# Altium footprint library 三电平变换器.PCBLIB: 98 footprints (part 5 of 7)
Each footprint in its own frame and in the unit in brackets; x right, y up, seen from the top. Pads: shape width x height; smd on the part's side, far side on the other; paste and mask are expansions set on the pad; w line width, h text height; cw(c..) or ccw(c..) is an arc to the next point about the centre after c.
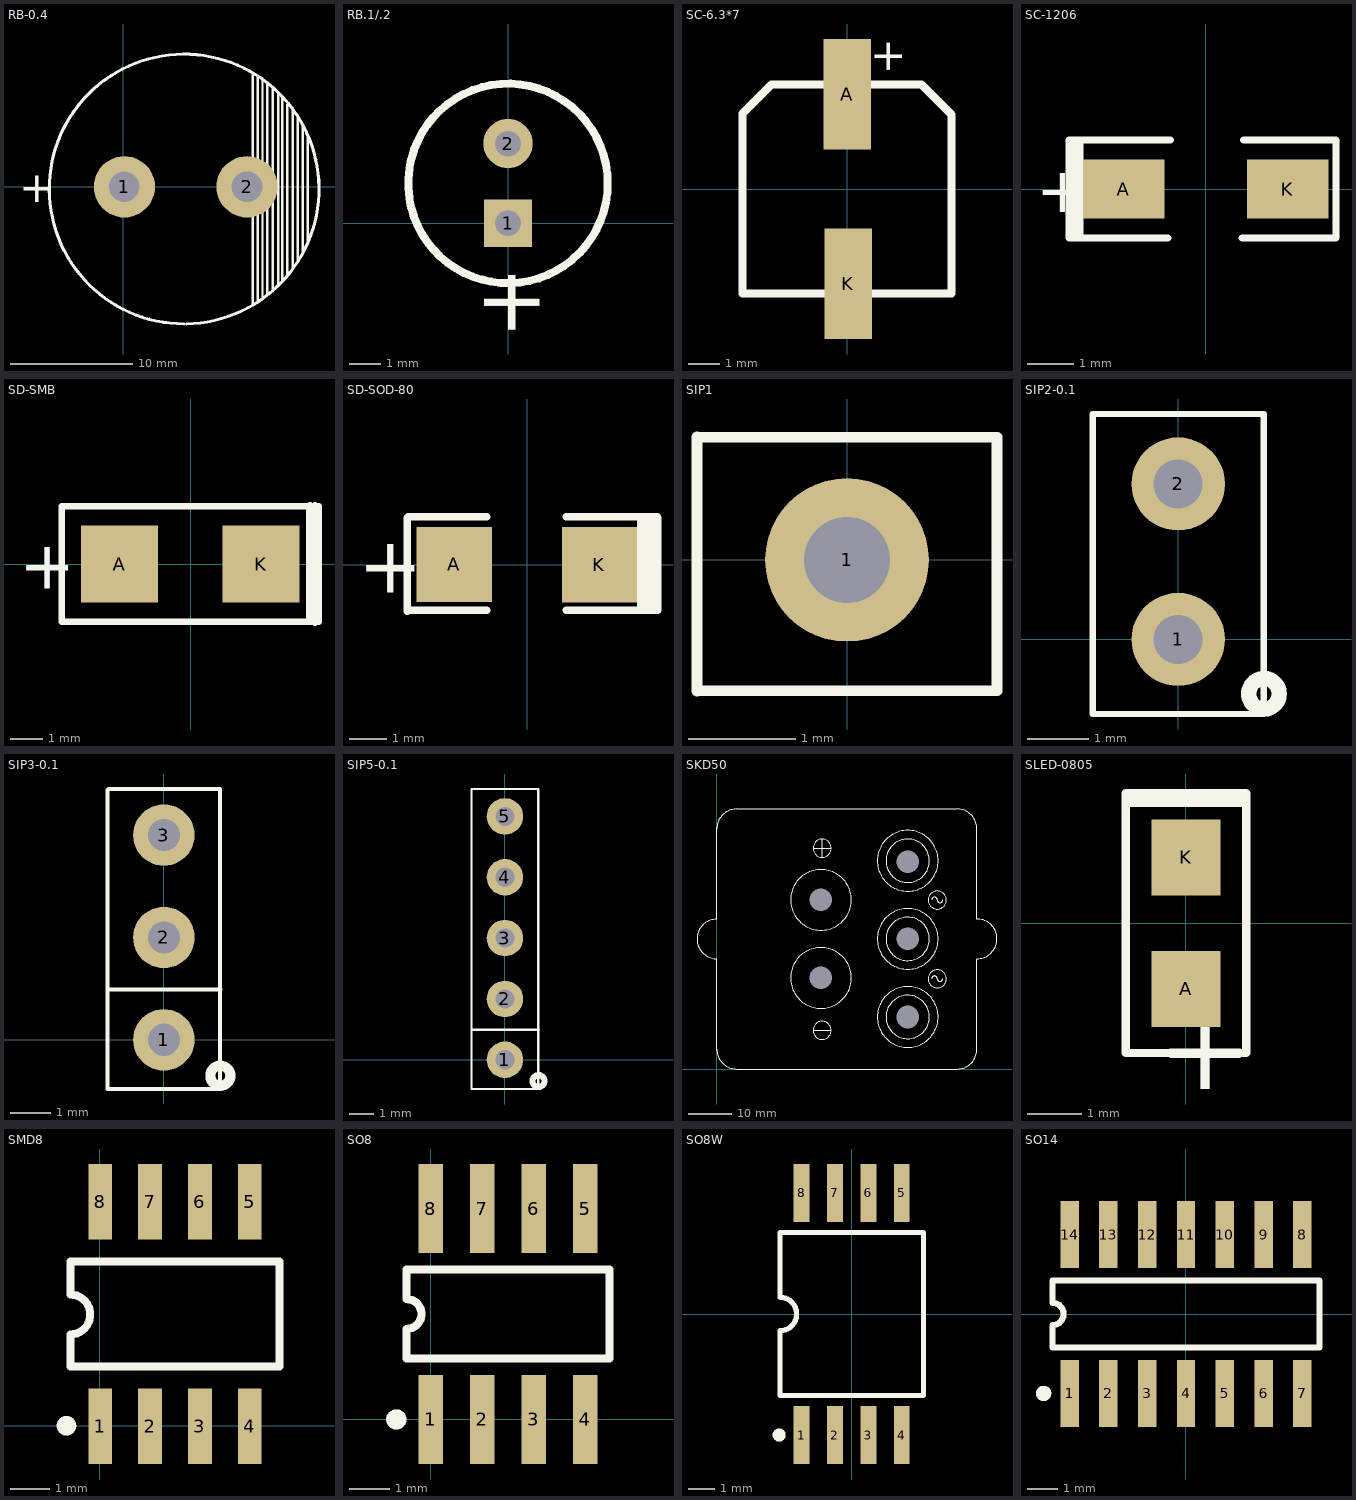
[diagram p4: the footprints below, top view; thin cyan lines are the x and y axes]

## RB-0.4 [mm] "有极性焊盘间距400mil"
pads (2):
  round 5 hole 2.5: 1(0.088,0) 2(10.088,0)
TopOverlay:
  lines w0.203: 10.539,-9.608 10.539,-1.575 ; 10.539,0.889 10.539,9.292 ; 10.945,-9.408 10.945,-1.626 ; 10.945,0.813 10.945,8.992 ; 11.351,-9.108 11.351,-1.6 ; 11.351,0.686 11.351,8.792 ; 11.758,-8.808 11.758,-1.27 ; 11.758,0.457 11.758,8.492 ; 12.19,-8.508 12.19,7.992 ; 12.621,-8.108 12.621,7.592 ; 12.977,-7.708 12.977,7.192 ; 13.383,-7.208 13.383,6.692 ; 13.815,-6.708 13.815,6.394 ; 14.222,-6.006 14.222,5.594 ; 14.628,-5.406 14.628,4.992 ; 15.034,-4.406 15.034,4.092
  lines w0.254: 4.96,-11.175 cw(c4.96,-0.175) 5.149,-11.173
  text "+" at -8.509,-1.27 h2.54

## RB.1/.2 [mil]
pads (2):
  rect 60x60 hole 32: 1(0,0)
  round 62 hole 32: 2(0,100)
TopOverlay:
  circle w10: c0,50 r125
  text "+" at 40,-145 h80

## SC-6.3*7 [mm] "贴片,焊盘距离240mil"
pads (2):
  rect 1.5x3.5 smd: A(-0.002,3) K(0.023,-3)
TopOverlay:
  lines w0.254: -3.327,-0.788 -3.327,2.387 -2.402,3.312 0.123,3.312 2.348,3.312 3.298,2.363 3.298,0.037 3.298,-3.312 -0.077,-3.312 -3.327,-3.312 -3.327,0.037
  text "+" at 1.737,3.626 h1

## SC-1206 [mil] "贴片,焊盘距离140mil"
pads (2):
  rect 69.84x50 smd: A(-70,0) K(70.28,0)
TopOverlay:
  lines w6: -113.6,-42 -113.6,0 -113.6,42 ; -110.6,-42 -110.6,0 -110.6,42 ; -107.6,-42 -107.6,0 -107.6,42 ; -32.01,-42 -116.6,-42 -116.6,0 -116.6,42 -30.18,42 ; 31.24,-42 111.4,-42 111.4,42 32.17,42
  text "+" at -145,-20 h39.37

## SD-SMB [mm] "贴片,焊盘距离4.4mm"
pads (2):
  rect 2.4x2.4 smd: A(-2.207,0.002) K(2.193,0.002)
TopOverlay:
  lines w0.2: -4.007,-1.798 -4.007,1.802 3.993,1.802 3.993,-1.798 -4.007,-1.798
  lines w0.254: 3.716,-1.748 3.716,1.802 ; 3.863,-1.798 3.863,1.802
  text "+" at -5.334,-0.762 h1.52

## SD-SOD-80 [mil] "贴片,焊盘间距4mm"
pads (2):
  rect 80x80 smd: A(-77.5,0.33) K(77,0)
TopOverlay:
  rectangle: 116.97,-49.04 139.47,50.96
  rectangle: 124.47,-49.04 139.47,50.96
  lines w7.87: 117,-48.67 139.5,-48.67 139.5,50.33 ; 117,51.33 138.5,51.33
  lines w8: -127.5,-49.67 -127.5,50.33 ; -126.5,-48.67 -118,-48.67 -43,-48.67 ; -126.5,51.33 -118,51.33 -43,51.33 ; 42,-48.67 117,-48.67 126.5,-48.67 ; 42,51.33 117,51.33
  text "+" at -180,-30 h60

## SIP1 [mil] "1о"
pads (1):
  round 60 hole 31.5: 1(0,0)
TopOverlay:
  lines w3.94: -54,-48 55,-48 55,-43 55,45 -54,45
  lines w4: -55,-48 -55,45

## SIP2-0.1 [mil] "2芯排针"
pads (2):
  round 60 hole 31.5: 1(0,0) 2(0,100)
TopOverlay:
  circle w9.84: c55.16,-35 r9.84
  lines w3.94: -54,-48 55,-48 55,-43 55,145 -54,145
  lines w4: -55,-48 -55,145

## SIP3-0.1 [mil] "3芯排针"
pads (3):
  round 60 hole 31.5: 1(0,0) 2(0,100) 3(0,200)
TopOverlay:
  circle w9.84: c55.16,-35 r9.84
  lines w3.94: -54,-48 55,-48 55,-43 55,244.17 ; -54,245 55,245 ; -53.67,49.17 55.33,49.17
  lines w4: -55,-48 -55,244.17

## SIP5-0.1 [mil] "5芯排针"
pads (5):
  round 60 hole 31.5: 1(0,0) 2(0,100) 3(0,200) 4(0,300) 5(0,400)
TopOverlay:
  circle w9.84: c55.16,-35 r9.84
  lines w3.94: -54,-48 55,-48 55,-43 55,445 -54,445 ; -53.67,49.17 55.33,49.17
  lines w4: -55,-48 -55,445

## SKD50 [mm] "3相不控整流桥by SEMIKRON 50A"
pads (5):
  round 1.524 hole 5.2: A(44,47.797) B(44,30) C(44,12) N(24,21) P(24,39)
TopOverlay:
  circle w0.254: c24.257,8.923 r2.077
  circle w0.254: c24.257,50.894 r2.086
  circle w0.254: c24,21 r7
  circle w0.254: c24.003,38.989 r7
  circle w0.254: c44,30 r7
  circle w0.254: c44,30 r5
  circle w0.254: c44,12 r7
  circle w0.254: c44,12 r5
  circle w0.254: c44,48 r7
  circle w0.254: c44,48 r5
  circle w0.254: c50.8,20.795 r2.086
  circle w0.254: c50.8,38.956 r2.086
  lines w0.254: -0.127,34.542 ccw(c0,29.972) 0,25.4 0,4.445 ; 0,4.572 ccw(c4.572,4.572) 4.572,0 55.372,0 ccw(c55.372,4.572) 59.944,4.572 ; 0,34.544 0,55.626 ; 0,55.372 cw(c4.572,55.372) 4.572,59.944 55.372,59.944 cw(c55.372,55.372) 59.944,55.372 ; 22.254,50.894 26.254,50.894 ; 22.26,8.923 26.26,8.923 ; 24.29,48.924 24.29,52.924 ; 49.53,20.828 cw(c50.165,20.828) 50.8,20.828 ccw(c51.435,20.828) 52.07,20.828 ; 49.53,38.989 cw(c50.165,38.989) 50.8,38.989 ccw(c51.435,38.989) 52.07,38.989 ; 59.907,34.571 cw(c60,30) 59.941,25.428 ; 59.944,4.318 59.944,25.273 ; 59.944,34.544 59.944,55.499

## SLED-0805 [mil]
pads (2):
  rect 50x55 smd: A(0.4,-47.5) K(0.4,47.5)
TopOverlay:
  rectangle: -43.08,84 43.96,97
  lines w6: -43.34,-93.74 -43.34,93.89 ; -43.08,-94 43.81,-94 43.81,94
  text "+" at -20,-120 h60

## SMD8 [mil]
pads (8):
  rect 24x76 smd: 1(0.43,-0.41) 2(50.43,-0.41) 3(100.43,-0.41) 4(150.43,-0.41) 5(150.43,224.59) 6(100.43,224.59) 7(50.43,224.59) 8(0.43,224.59)
TopOverlay:
  circle w9.84: c-33.46,0 r4.92
  lines w8: -29.57,59.59 -29.57,91.59 ccw(c-29.57,111.59) -29.57,131.59 -29.57,164.59 180.43,164.59 180.43,59.59 -29.57,59.59

## SO8 [mm] "Small Outline; 8 Leads; Body Width 3.9 mm; Pitch 1.27 mm"
height 1.75
pads (8):
  rect 0.6x2.2 smd: 1(0,0) 2(1.27,0) 3(2.54,0) 4(3.81,0) 5(3.81,5.2) 6(2.54,5.2) 7(1.27,5.2) 8(0,5.2)
TopOverlay:
  circle w0.25: c-0.85,0 r0.125
  lines w0.2: -0.595,2.233 ccw(c-0.595,2.6) -0.595,2.967 -0.595,3.7 4.405,3.7 4.405,1.5 -0.595,1.5 -0.595,2.233

## SO8W [mm] "Small Outline; 8 Leads; Body Width 7.5 mm; Pitch 1.27 mm"
height 2.65
pads (8):
  rect 0.6x2.2 smd: 1(-1.905,-4.6) 2(-0.635,-4.6) 3(0.635,-4.6) 4(1.905,-4.6) 5(1.905,4.6) 6(0.635,4.6) 7(-0.635,4.6) 8(-1.905,4.6)
TopOverlay:
  circle w0.25: c-2.755,-4.6 r0.125
  lines w0.2: -2.725,-3.1 -2.725,-0.635 ccw(c-2.725,0) -2.725,0.635 -2.725,3.1 2.725,3.1 2.725,-3.1 -2.725,-3.1

## SO14 [mm] "Small Outline; 14 Leads; Body Width 3.9 mm; Pitch 1.27 mm"
height 1.75
pads (14):
  rect 0.6x2.2 smd: 1(-3.81,-2.6) 2(-2.54,-2.6) 3(-1.27,-2.6) 4(0,-2.6) 5(1.27,-2.6) 6(2.54,-2.6) 7(3.81,-2.6) 8(3.81,2.6) 9(2.54,2.6) 10(1.27,2.6) 11(0,2.6) 12(-1.27,2.6) 13(-2.54,2.6) 14(-3.81,2.6)
TopOverlay:
  circle w0.25: c-4.66,-2.6 r0.125
  lines w0.2: -4.375,-1.1 4.375,-1.1 4.375,1.1 -4.375,1.1 -4.375,0.367 cw(c-4.375,0) -4.375,-0.367 -4.375,-1.1